# EAGLE library part R-ARRAY(4) (library matlock)
Bourns 4100R series resistor array 1/4W (4108R)
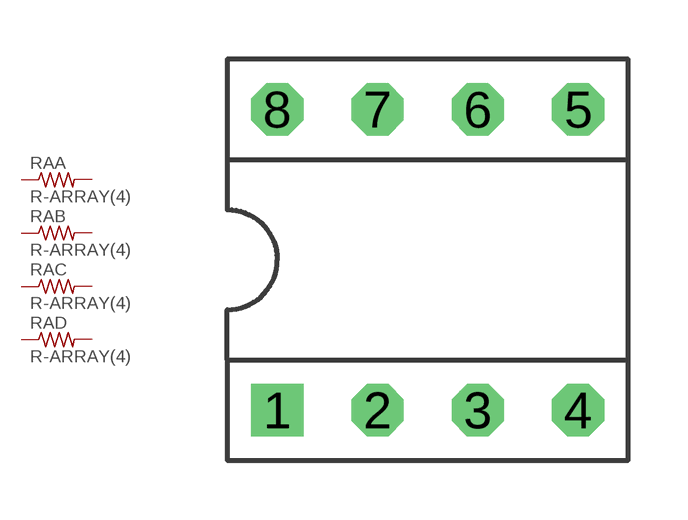
[diagram p1: symbol with the pads of DIP8; footprint DIP8]

Designator prefix RA; gates A=RESISTOR B=RESISTOR C=RESISTOR D=RESISTOR

## R-ARRAY(4)  [DIP8]
1  A:1  pas
2  B:1  pas
3  C:1  pas
4  D:1  pas
5  D:2  pas
6  C:2  pas
7  B:2  pas
8  A:2  pas

## Footprint DIP8 (pad centres in mm)
drill 0.813 square: 1 -3.81,-3.81
drill 0.813 octagon: 2 -1.27,-3.81; 3 1.27,-3.81; 4 3.81,-3.81; 5 3.81,3.81; 6 1.27,3.81; 7 -1.27,3.81; 8 -3.81,3.81